# EAGLE library part ADS1282 (library ic)
ADS1282: High resolution A/D-converter (Texas instruments) 31 bits, 2 multiplexed inputs
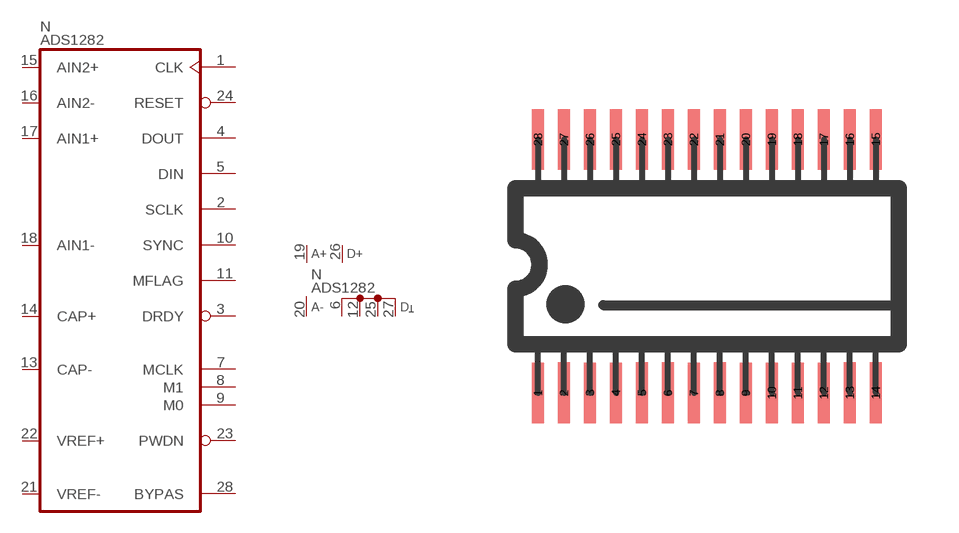
[diagram p137: symbol with the pads of TSSOP28; footprint TSSOP28]

Designator prefix N; gates A=ADS1282 P=VADS1282

## ADS1282  [TSSOP28]
1  A:CLK  in
2  A:SCLK  in
3  A:DRDY  out
4  A:DOUT  out
5  A:DIN  in
6  P:DGND  pwr
7  A:MCLK
8  A:M1
9  A:M0
10  A:SYNC  in
11  A:MFLAG  out
12  P:DGND  pwr
13  A:CAP-  pas
14  A:CAP+  pas
15  A:AIN2+  in
16  A:AIN2-  in
17  A:AIN1+  in
18  A:AIN1-  in
19  P:AVDD  pwr
20  P:AVSS  pwr
21  A:VREF-  in
22  A:VREF+  in
23  A:PWDN  in
24  A:RESET  in
25  P:DGND  pwr
26  P:DVDD  pwr
27  P:DGND  pwr
28  A:BYPAS  pas

## Footprint TSSOP28 (pad centres in mm)
TSSOP28, SMD TSSOP IC package (0.65mm pitch), 28 pins
smd 0.305 x 1.524: 1 -4.225,-3.169; 2 -3.575,-3.169; 3 -2.925,-3.169; 4 -2.275,-3.169; 5 -1.625,-3.169; 6 -0.975,-3.169; 7 -0.325,-3.169; 8 0.325,-3.169; 9 0.975,-3.169; 10 1.625,-3.169; 11 2.275,-3.169; 12 2.925,-3.169; 13 3.575,-3.169; 14 4.225,-3.169; 15 4.225,3.169; 16 3.575,3.169; 17 2.925,3.169; 18 2.275,3.169; 19 1.625,3.169; 20 0.975,3.169; 21 0.325,3.169; 22 -0.325,3.169; 23 -0.975,3.169; 24 -1.625,3.169; 25 -2.275,3.169; 26 -2.925,3.169; 27 -3.575,3.169; 28 -4.225,3.169